# Altium schematic symbol library 21xt_symbols.SchLib: 44 symbols
Pins are listed as number, name and electrical type; pins without a type are passive.

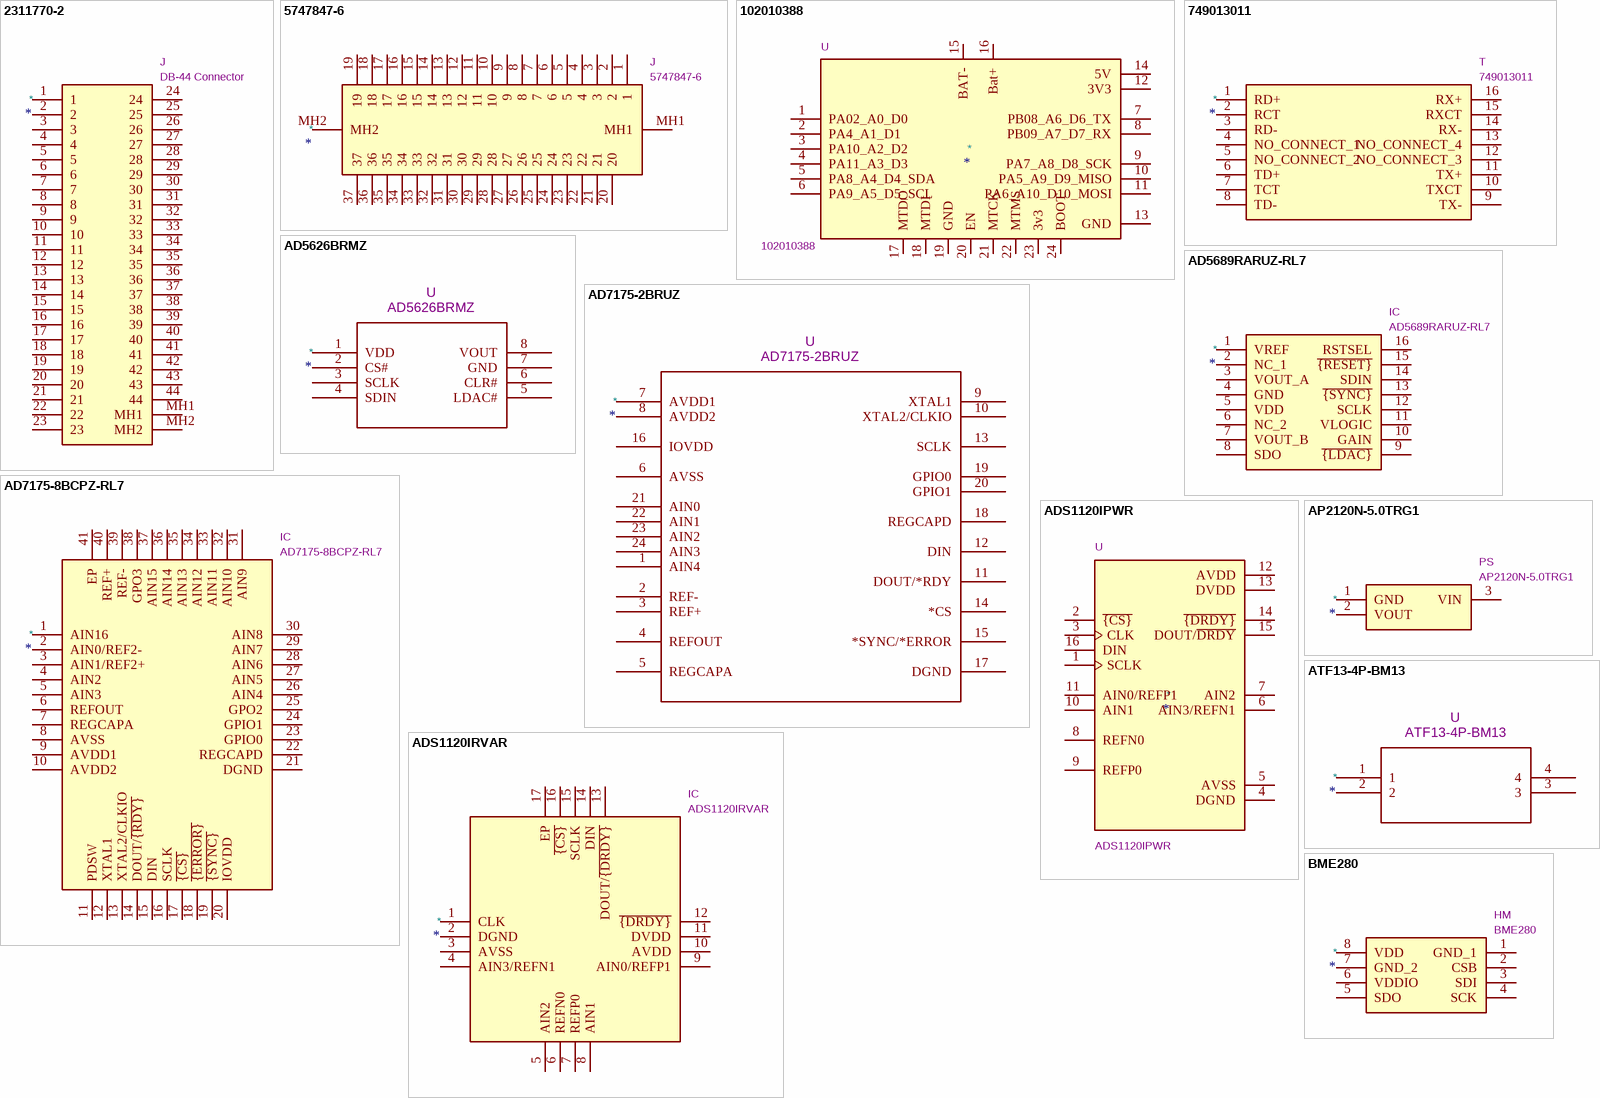
[diagram p0: symbols 2311770-2 to BME280]

## 2311770-2
designator *  value DB-44 Connector  Reference: J
Manufacturer_Name: TE Connectivity; Manufacturer_Part_Number: 2311770-2; ki_description: Body Features: Connector Profile Standard | Primary Product Color Black | Configuration Features: Number of Positions 44 | Number of Rows 3 | PCB Mount Orientation Right Angle | Contact Features: Contact Current Rating (Max) 3 AMP | Contact Shape & Form Round | Dimensions: Row-to-Row Spacing 1.98 MM | Row-to-Row Spacing .077 INCH | Housing Features: Centerline (Pitch) .09 INCH | Centerline (Pitch) 2.29 MM | Housing Material PBT GF | Mechanical Attachment: PCB Mount Retention With | Mating Retention With | P; Footprint: 23117702; Datasheet: https://www.mouser.sg/ProductDetail/TE-Connectivity-AMP/2311770-2?qs=y6ZabgHbY%252Byu0c3UbSQ1%252Bw%3D%3D; Height: 12.8; Mouser Part Number: 571-2311770-2; Mouser Price/Stock: https://www.mouser.co.uk/ProductDetail/TE-Connectivity-AMP/2311770-2?qs=y6ZabgHbY%252Byu0c3UbSQ1%252Bw%3D%3D
pins: 1, 2, 3, 4, 5, 6, 7, 8, 9, 10, 11, 12, 13, 14, 15, 16, 17, 18, 19, 20, 21, 22, 23, 24, 25, 26, 27, 28, 29, 30, 31, 32, 33, 34, 35, 36, 37, 38, 39, 40, 41, 42, 43, 44, MH1, MH2

## 5747847-6
designator *  value 5747847-6  Reference: J
Manufacturer_Name: TE Connectivity; ki_description: Body Features: Mating Feature Material Zinc | Assembly Process Feature Material Copper Alloy | Shell Plating Material Tin over Copper | Connector Profile Standard | Primary Product Color Black | Mating Feature Plating Material Clear Chromate | Configuration Features: Number of Rows 2 | PCB Mount Orientation Right Angle | Number of Positions 37 | Contact Features: Contact Mating Area Plating Material Gold | PCB Contact Termination Area Plating Material Tin | Contact Base Material Phosphor Bronze | Contact Ma; Footprint: 57478476; Datasheet: https://www.te.com/commerce/DocumentDelivery/DDEController?Action=srchrtrv&DocNm=82068_AMPLIMITE_Right-Angle_Posted_Conn&DocType=Catalog%20Section&DocLang=English&PartCntxt=5747847-6&DocFormat=pdf; Height: 12.9286; Manufacturer_Part_Number: 5747847-6; Mouser Part Number: 571-5747847-6; Mouser Price/Stock: https://www.mouser.co.uk/ProductDetail/TE-Connectivity/5747847-6?qs=DUjmvCJSYRDRvMVFkAFvlQ%3D%3D; Arrow Part Number: 5747847-6; Arrow Price/Stock: https://www.arrow.com/en/products/5747847-6/te-connectivity?region=nac
pins: 1, 2, 3, 4, 5, 6, 7, 8, 9, 10, 11, 12, 13, 14, 15, 16, 17, 18, 19, 20, 21, 22, 23, 24, 25, 26, 27, 28, 29, 30, 31, 32, 33, 34, 35, 36, 37, MH1, MH2

## 102010388
designator *  value 102010388  Reference: U
\n                        \n                            Seeeduino XIAO Development Board, Pre-Soldered [Seeed Studio] 102010388 Seeeduino XIAO Development Board, Pre-Soldered\n                        \n; MANUFACTURER: Seeed Technology; MF: Seeed Technology Co., Ltd; Footprint: 102010388:MODULE_102010388; MAXIMUM_PACKAGE_HEIGHT: N/A; Package: None; Price: None; Check_prices: https://www.snapeda.com/parts/102010388/Seeed+Studio/view-part/?ref=eda; STANDARD: Manufacturer Recommendations; PARTREV: N/A; SnapEDA_Link: https://www.snapeda.com/parts/102010388/Seeed+Studio/view-part/?ref=snap; MP: 102010388; Description_: \n                        \n                            Seeeduino XIAO Development Board, Pre-Soldered [Seeed Studio] 102010388 Seeeduino XIAO Development Board, Pre-Soldered\n                        \n; Availability: In Stock; SNAPEDA_PN: 102010388
pins: 1 PA02_A0_D0, 2 PA4_A1_D1, 3 PA10_A2_D2, 4 PA11_A3_D3, 5 PA8_A4_D4_SDA, 6 PA9_A5_D5_SCL, 7 PB08_A6_D6_TX, 8 PB09_A7_D7_RX, 9 PA7_A8_D8_SCK, 10 PA5_A9_D9_MISO, 11 PA6_A10_D10_MOSI, 12 3V3, 13 GND, 14 5V, 15 BAT-, 16 Bat+, 17 MTDO, 18 MTDI, 19 GND, 20 EN, 21 MTCK, 22 MTMS, 23 3v3, 24 BOOT

## 749013011
designator *  value 749013011  Reference: T
Manufacturer_Name: Wurth Elektronik; ki_description: Eth. Magnetics for Main, Aux; Footprint: 749013011; Datasheet: https://www.we-online.de/katalog/datasheet/749013011.pdf; Height: 5.33; Mouser Part Number: 710-749013011; Mouser Price/Stock: https://www.mouser.co.uk/ProductDetail/Wurth-Elektronik/749013011?qs=2sV1BwmkawRYxGj1O9AWzA%3D%3D; Manufacturer_Part_Number: 749013011
pins: 1 RD+, 2 RCT, 3 RD-, 4 NO_CONNECT_1, 5 NO_CONNECT_2, 6 TD+, 7 TCT, 8 TD-, 9 TX-, 10 TXCT, 11 TX+, 12 NO_CONNECT_3, 13 NO_CONNECT_4, 14 RX-, 15 RXCT, 16 RX+

## AD5626BRMZ
designator *  value AD5626BRMZ  Reference: U
ki_description: DAC for wsg, main; ki_fp_filters: RM_8_ADI RM_8_ADI-M RM_8_ADI-L; Footprint: RM_8_ADI; Datasheet: AD5626BRMZ; ki_keywords: AD5626BRMZ
pins: 1 VDD, 2 CS#, 3 SCLK, 4 SDIN, 5 LDAC#, 6 CLR#, 7 GND, 8 VOUT

## AD5689RARUZ-RL7
designator *  value AD5689RARUZ-RL7  Reference: IC
Manufacturer_Name: Analog Devices; ki_description: Digital to Analog Converters - DAC 16-Bit 2-ch SPI nanoDAC+with on-chip ref; Footprint: SOP65P640X120-16N; Datasheet: https://www.analog.com/media/en/technical-documentation/data-sheets/AD5689R_5687R.pdf; Height: 1.2; Mouser Part Number: 584-AD5689RARUZ-R7; Mouser Price/Stock: https://www.mouser.co.uk/ProductDetail/Analog-Devices/AD5689RARUZ-RL7?qs=NmRFExCfTkGWKmPGJDmQBg%3D%3D; Manufacturer_Part_Number: AD5689RARUZ-RL7
pins: 1 VREF, 2 NC_1, 3 VOUT_A, 4 GND, 5 VDD, 6 NC_2, 7 VOUT_B, 8 SDO, 9 ~{{LDAC}}, 10 GAIN, 11 VLOGIC, 12 SCLK, 13 ~{{SYNC}}, 14 SDIN, 15 ~{{RESET}}, 16 RSTSEL

## AD7175-2BRUZ
designator *  value AD7175-2BRUZ  Reference: U
ki_description: 2-channel ADC for Main, Aux; ki_fp_filters: RU_24_ADI RU_24_ADI-M RU_24_ADI-L; Footprint: RU_24_ADI; Datasheet: AD7175-2BRUZ; ki_keywords: AD7175-2BRUZ
pins: 1 AIN4, 2 REF-, 3 REF+, 4 REFOUT, 5 REGCAPA, 6 AVSS, 7 AVDD1, 8 AVDD2, 9 XTAL1, 10 XTAL2/CLKIO, 11 DOUT/*RDY, 12 DIN, 13 SCLK, 14 *CS, 15 *SYNC/*ERROR, 16 IOVDD, 17 DGND, 18 REGCAPD, 19 GPIO0, 20 GPIO1, 21 AIN0, 22 AIN1, 23 AIN2, 24 AIN3

## AD7175-8BCPZ-RL7
designator *  value AD7175-8BCPZ-RL7  Reference: IC
Manufacturer_Name: Analog Devices; ki_description: 8-channel ADC for Main, Aux; Footprint: QFN50P600X600X80-41N-D; Datasheet: https://componentsearchengine.com/Datasheets/2/AD7175-8BCPZ-RL7.pdf; Height: 0.8; Mouser Part Number: 584-AD7175-8BCPZ-RL7; Mouser Price/Stock: https://www.mouser.co.uk/ProductDetail/Analog-Devices/AD7175-8BCPZ-RL7?qs=JeIcUl65ClCxXjl02vXI6Q%3D%3D; Manufacturer_Part_Number: AD7175-8BCPZ-RL7
pins: 1 AIN16, 2 AIN0/REF2-, 3 AIN1/REF2+, 4 AIN2, 5 AIN3, 6 REFOUT, 7 REGCAPA, 8 AVSS, 9 AVDD1, 10 AVDD2, 11 PDSW, 12 XTAL1, 13 XTAL2/CLKIO, 14 DOUT/~{{RDY}}, 15 DIN, 16 SCLK, 17 ~{{CS}}, 18 ~{{ERROR}}, 19 ~{{SYNC}}, 20 IOVDD, 21 DGND, 22 REGCAPD, 23 GPIO0, 24 GPIO1, 25 GPO2, 26 AIN4, 27 AIN5, 28 AIN6, 29 AIN7, 30 AIN8, 31 AIN9, 32 AIN10, 33 AIN11, 34 AIN12, 35 AIN13, 36 AIN14, 37 AIN15, 38 GPO3, 39 REF-, 40 REF+, 41 EP

## ADS1120IPWR
designator *  value ADS1120IPWR  Reference: U
ki_description: ADC for wireless strain gauge; Footprint: ADS1120IPWR:SOP65P640X120-16N
pins: 1 SCLK, 2 ~{{CS}}, 3 CLK, 4 DGND, 5 AVSS, 6 AIN3/REFN1, 7 AIN2, 8 REFN0, 9 REFP0, 10 AIN1, 11 AIN0/REFP1, 12 AVDD, 13 DVDD, 14 ~{{DRDY}}, 15 DOUT/~{DRDY}, 16 DIN

## ADS1120IRVAR
designator *  value ADS1120IRVAR  Reference: IC
Manufacturer_Name: Texas Instruments; ki_description: 16-bit, 2-kSPS, 4-ch, low-power, small-size delta-sigma ADC with PGA, VREF, 2x IDACs & SPI interface; Footprint: QFN50P350X350X100-17N-D; Datasheet: https://www.arrow.com/en/products/ads1120irvar/texas-instruments; Height: 1; Mouser Part Number: 595-ADS1120IRVAR; Mouser Price/Stock: https://www.mouser.co.uk/ProductDetail/Texas-Instruments/ADS1120IRVAR?qs=%2Fd%252BFzHvH4c2AzmjDnnpHRQ%3D%3D; Manufacturer_Part_Number: ADS1120IRVAR
pins: 1 CLK, 2 DGND, 3 AVSS, 4 AIN3/REFN1, 5 AIN2, 6 REFN0, 7 REFP0, 8 AIN1, 9 AIN0/REFP1, 10 AVDD, 11 DVDD, 12 ~{{DRDY}}, 13 DOUT/~{{DRDY}}, 14 DIN, 15 SCLK, 16 ~{{CS}}, 17 EP

## AP2120N-5.0TRG1
designator *  value AP2120N-5.0TRG1  Reference: PS
Manufacturer_Name: Diodes Incorporated; ki_description: Lin Reg 5V 150MA SOT23 for wsg; Footprint: SOT96P240X120-3N; Datasheet: https://www.diodes.com//assets/Datasheets/AP2120.pdf; Height: 1.2; Mouser Part Number: 621-AP2120N-5.0TRG1; Mouser Price/Stock: https://www.mouser.co.uk/ProductDetail/Diodes-Incorporated/AP2120N-5.0TRG1?qs=M%2FOdCRO8QQ3JQu49DdtyIA%3D%3D; Manufacturer_Part_Number: AP2120N-5.0TRG1
pins: 1 GND, 2 VOUT, 3 VIN

## ATF13-4P-BM13
designator *  value ATF13-4P-BM13  Reference: U
ki_fp_filters: ATF13-4P-BM13_AMP; Footprint: ATF13-4P-BM13_AMP; Datasheet: ATF13-4P-BM13; ki_keywords: ATF13-4P-BM13
pins: 1, 2, 3, 4

## BME280
designator *  value BME280  Reference: HM
Manufacturer_Name: BOSCH; ki_description: Humidity/Pressure Sensors for wsg; Footprint: BME280; Datasheet: https://datasheet.datasheetarchive.com/originals/distributors/DKDS-24/462906.pdf; Mouser Part Number: 262-BME280; Mouser Price/Stock: https://www.mouser.co.uk/ProductDetail/Bosch-Sensortec/BME280?qs=2OnyuXx6vpj2fK9HX7qb3g%3D%3D; Manufacturer_Part_Number: BME280
pins: 1 GND_1, 2 CSB, 3 SDI, 4 SCK, 5 SDO, 6 VDDIO, 7 GND_2, 8 VDD

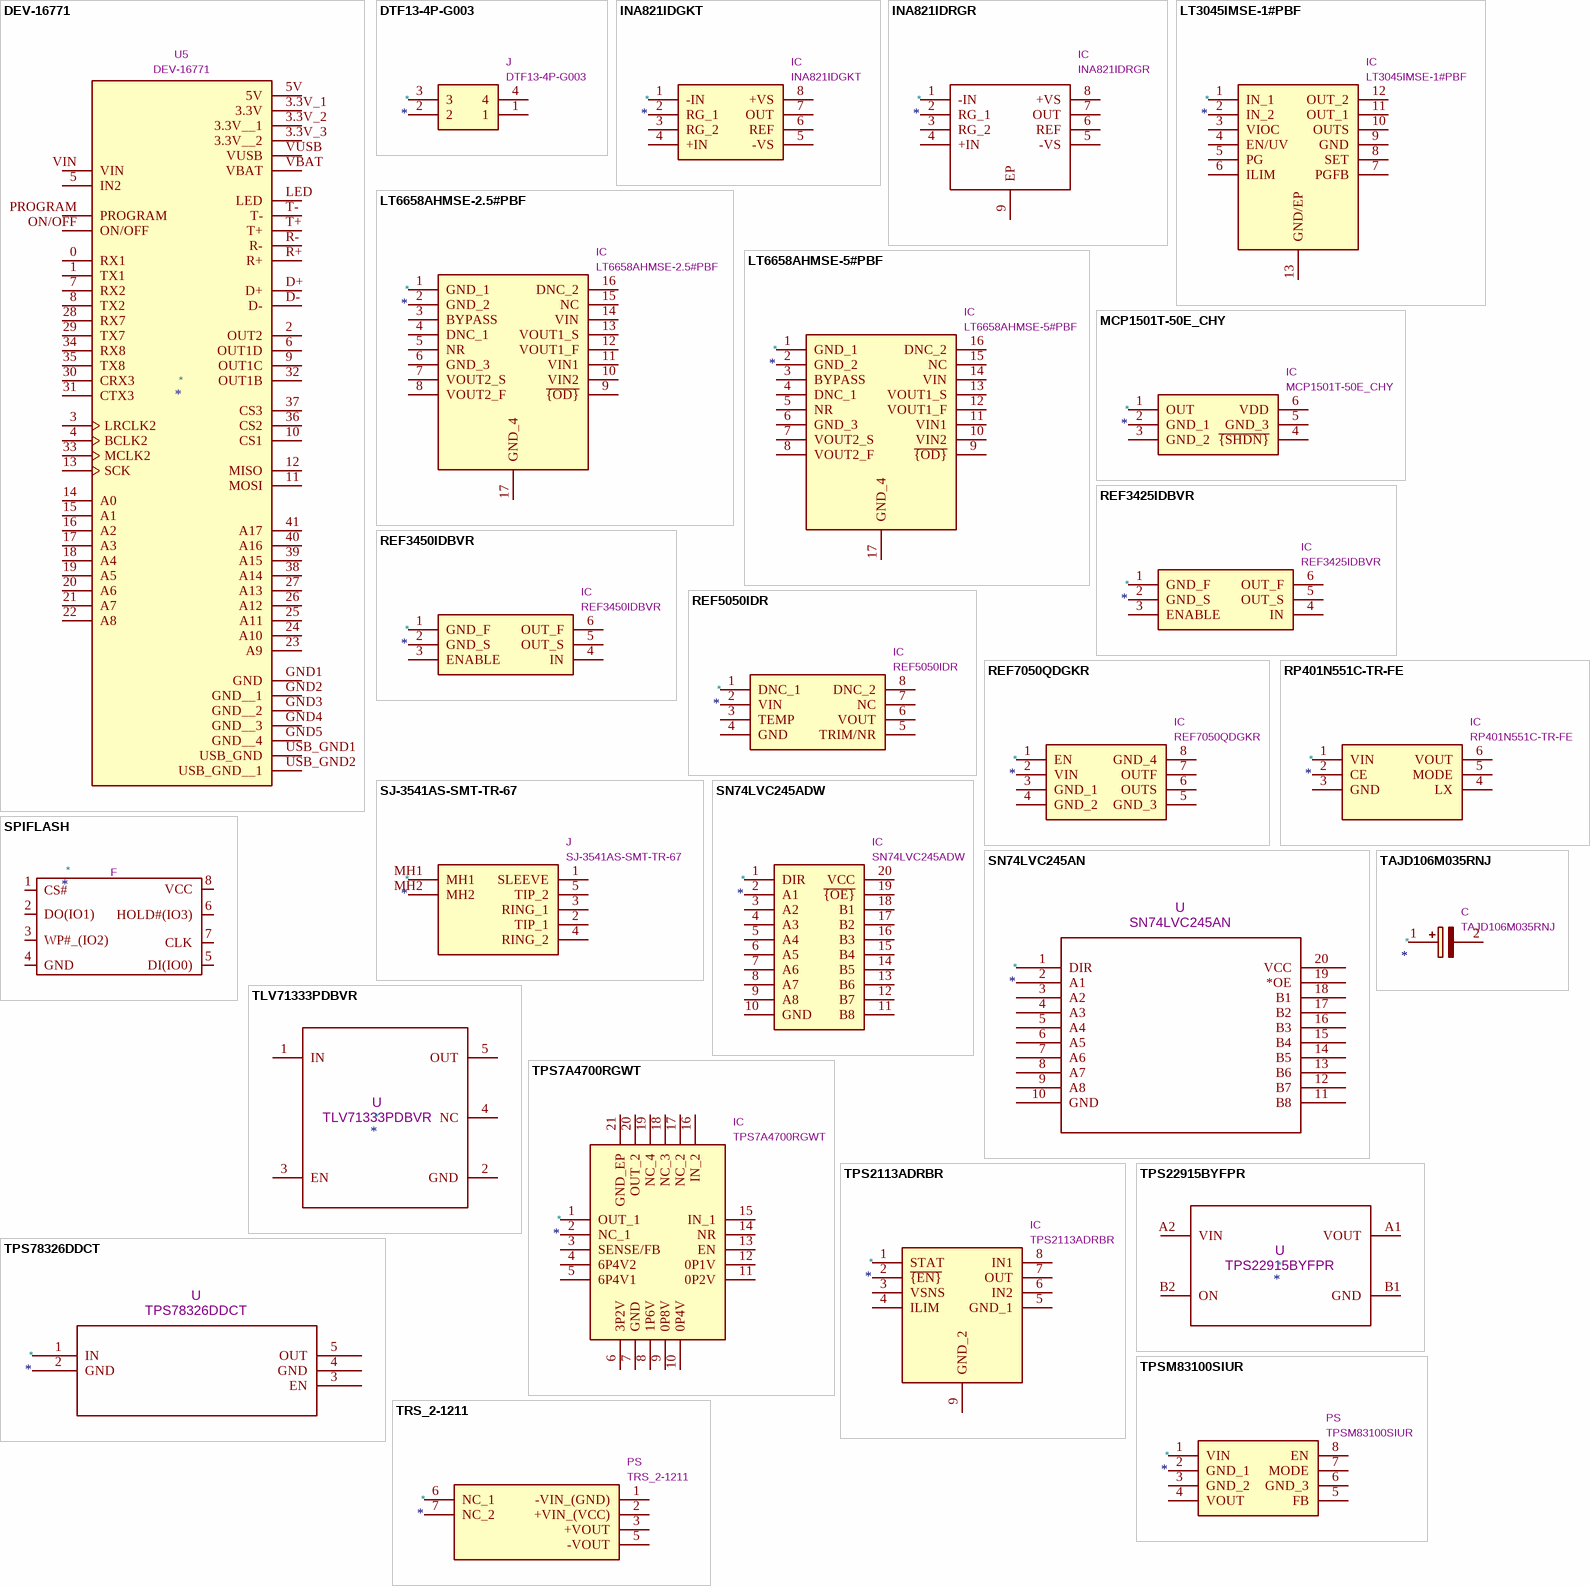
[diagram p1: symbols DEV-16771 to TRS_2-1211]

## DEV-16771
designator *  value DEV-16771  Reference: U5
MANUFACTURER: SparkFun Electronics; ki_description: teensy 4.1 for Aux; Footprint: mainboxfp:MODULE_DEV-16771; PARTREV: 4.1; MAXIMUM_PACKAGE_HEIGHT: 4.07mm; STANDARD: Manufacturer recommendations
pins: 0 RX1, 1 TX1, 2 OUT2, 3 LRCLK2, 3.3V_1 3.3V, 3.3V_2 3.3V__1, 3.3V_3 3.3V__2, 4 BCLK2, 5 IN2, 5V, 6 OUT1D, 7 RX2, 8 TX2, 9 OUT1C, 10 CS1, 11 MOSI, 12 MISO, 13 SCK, 14 A0, 15 A1, 16 A2, 17 A3, 18 A4, 19 A5, 20 A6, 21 A7, 22 A8, 23 A9, 24 A10, 25 A11, 26 A12, 27 A13, 28 RX7, 29 TX7, 30 CRX3, 31 CTX3, 32 OUT1B, 33 MCLK2, 34 RX8, 35 TX8, 36 CS2, 37 CS3, 38 A14, 39 A15, 40 A16, 41 A17, D+, D-, GND1 GND, GND2 GND__1, GND3 GND__2, GND4 GND__3, GND5 GND__4, LED, ON/OFF, PROGRAM, R+, R-, T+, T-, USB_GND1 USB_GND, USB_GND2 USB_GND__1, VBAT, VIN, VUSB

## DTF13-4P-G003
designator *  value DTF13-4P-G003  Reference: J
Manufacturer_Name: TE Connectivity; ki_description: Body Features: Primary Product Color Black | Configuration Features: Number of Sections 1 | Number of Rows 2 | Number of Positions 4 | PCB Mount Orientation Right Angle | Number of Signal Positions 4 | Contact Features: Mating Pin Diameter .063 INCH | Contact Type Pin | Contact Mating Area Plating Material Gold | Contact Current Rating (Max) 13 AMP | Contact Size Size 16 | Mating Pin Diameter 1.59 MM | Dimensions: Connector Width 27.18 MM | PCB Thickness (Recommended) .78  2.36 MM | Connector Length 1.31; Footprint: DTF134PG003; Datasheet: https://www.te.com/commerce/DocumentDelivery/DDEController?Action=srchrtrv&DocNm=1-1773962-8&DocType=Data%20Sheet&DocLang=English&PartCntxt=DTF13-4P-G003&DocFormat=pdf; Height: 23.52; Mouser Part Number: 571-DTF13-4P-G003; Mouser Price/Stock: https://www.mouser.co.uk/ProductDetail/TE-Connectivity-DEUTSCH/DTF13-4P-G003?qs=cgQJD%2FpJz0wMj4JqThO4Bw%3D%3D; Manufacturer_Part_Number: DTF13-4P-G003
pins: 1, 2, 3, 4

## INA821IDGKT
designator *  value INA821IDGKT  Reference: IC
Manufacturer_Name: Texas Instruments; ki_description: Inst. Amp for Main, wsg; Footprint: SOP65P490X110-8N; Datasheet: http://www.ti.com/lit/ds/symlink/ina821.pdf; Height: 1.1; Mouser Part Number: 595-INA821IDGKT; Mouser Price/Stock: https://www.mouser.co.uk/ProductDetail/Texas-Instruments/INA821IDGKT?qs=LDGDZb5k%2F%252B8diOW5CeiHfQ%3D%3D; Manufacturer_Part_Number: INA821IDGKT
pins: 1 -IN, 2 RG_1, 3 RG_2, 4 +IN, 5 -VS, 6 REF, 7 OUT, 8 +VS

## INA821IDRGR
designator *  value INA821IDRGR  Reference: IC
Instrumentation Amplifiers High bandwidth (4.7MHz), low noise (7nV/vHz), precision (35 V), low-power, instrumentation amp; Manufacturer_Name: Texas Instruments; Footprint: SON50P300X300X80-9N-D; Datasheet: https://www.ti.com/lit/ds/symlink/ina821.pdf?ts=1600196554295&ref_url=https%253A%252F%252Fwww.ti.com%252Fstore%252Fti%252Fen%252Fp%252Fproduct%252F%253Fp%253DINA821IDRGR; Description_: Instrumentation Amplifiers High bandwidth (4.7MHz), low noise (7nV/vHz), precision (35 V), low-power, instrumentation amp; Height: 0.8; Mouser Part Number: 595-INA821IDRGR; Mouser Price/Stock: https://www.mouser.co.uk/ProductDetail/Texas-Instruments/INA821IDRGR?qs=LDGDZb5k%2F%252B%2Foo4X%252BEQr4FA%3D%3D; Manufacturer_Part_Number: INA821IDRGR; ki_description: Instrumentation Amplifiers High bandwidth (4.7MHz), low noise (7nV/vHz), precision (35 V), low-power, instrumentation amp
pins: 1 -IN, 2 RG_1, 3 RG_2, 4 +IN, 5 -VS, 6 REF, 7 OUT, 8 +VS, 9 EP

## LT3045IMSE-1#PBF
designator *  value LT3045IMSE-1#PBF  Reference: IC
Manufacturer_Name: Analog Devices; ki_description: LDO Reg for Main; Footprint: SOP65P490X110-13N; Datasheet: http://www.analog.com/media/en/technical-documentation/data-sheets/30451fa.pdf; Height: 1.1; Mouser Part Number: 584-LT3045IMSE-1#PBF; Mouser Price/Stock: https://www.mouser.co.uk/ProductDetail/Analog-Devices/LT3045IMSE-1PBF?qs=5aG0NVq1C4xDoPDdVL4PHw%3D%3D; Manufacturer_Part_Number: LT3045IMSE-1#PBF
pins: 1 IN_1, 2 IN_2, 3 VIOC, 4 EN/UV, 5 PG, 6 ILIM, 7 PGFB, 8 SET, 9 GND, 10 OUTS, 11 OUT_1, 12 OUT_2, 13 GND/EP

## LT6658AHMSE-2.5#PBF
designator *  value LT6658AHMSE-2.5#PBF  Reference: IC
Manufacturer_Name: Analog Devices; ki_description: 2.5v refulator for Aux; Footprint: SOP50P490X110-17N; Datasheet: https://www.analog.com/media/en/technical-documentation/data-sheets/lt6658.pdf; Height: 1.1; Mouser Part Number: 584-LT6658AHMSE5PBF; Mouser Price/Stock: https://www.mouser.co.uk/ProductDetail/Analog-Devices/LT6658AHMSE-5PBF?qs=W0yvOO0ixfFdSUQ4xUcBUw%3D%3D; Manufacturer_Part_Number: LT6658AHMSE-2.5#PBF
pins: 1 GND_1, 2 GND_2, 3 BYPASS, 4 DNC_1, 5 NR, 6 GND_3, 7 VOUT2_S, 8 VOUT2_F, 9 ~{{OD}}, 10 VIN2, 11 VIN1, 12 VOUT1_F, 13 VOUT1_S, 14 VIN, 15 NC, 16 DNC_2, 17 GND_4

## LT6658AHMSE-5#PBF
designator *  value LT6658AHMSE-5#PBF  Reference: IC
Manufacturer_Name: Analog Devices; ki_description: 5v refulator for Aux; Footprint: SOP50P490X110-17N; Datasheet: https://www.analog.com/media/en/technical-documentation/data-sheets/lt6658.pdf; Height: 1.1; Mouser Part Number: 584-LT6658AHMSE5PBF; Mouser Price/Stock: https://www.mouser.co.uk/ProductDetail/Analog-Devices/LT6658AHMSE-5PBF?qs=W0yvOO0ixfFdSUQ4xUcBUw%3D%3D; Manufacturer_Part_Number: LT6658AHMSE-5#PBF
pins: 1 GND_1, 2 GND_2, 3 BYPASS, 4 DNC_1, 5 NR, 6 GND_3, 7 VOUT2_S, 8 VOUT2_F, 9 ~{{OD}}, 10 VIN2, 11 VIN1, 12 VOUT1_F, 13 VOUT1_S, 14 VIN, 15 NC, 16 DNC_2, 17 GND_4

## MCP1501T-50E_CHY
designator *  value MCP1501T-50E_CHY  Reference: IC
Manufacturer_Name: Microchip; Manufacturer_Part_Number: MCP1501T-50E/CHY; ki_description: Series Voltage Reference IC Fixed 5V V +/-0.1% 20 mA SOT-23-6; Footprint: SOT95P280X145-6N; Datasheet: https://ww1.microchip.com/downloads/aemDocuments/documents/MSLD/ProductDocuments/DataSheets/MCP1501-Data-Sheet-DS20005474F.pdf; Height: 1.45; Mouser Part Number: 579-MCP1501T-50E/CHY; Mouser Price/Stock: https://www.mouser.co.uk/ProductDetail/Microchip-Technology/MCP1501T-50E-CHY?qs=Li%252BoUPsLEnt6h%2FnXwes%252BxQ%3D%3D
pins: 1 OUT, 2 GND_1, 3 GND_2, 4 ~{{SHDN}}, 5 GND_3, 6 VDD

## REF3425IDBVR
designator *  value REF3425IDBVR  Reference: IC
Manufacturer_Name: Texas Instruments; ki_description: 2.5-V low-drift low-power small-footprint series voltage reference; Footprint: SOT95P280X145-6N; Datasheet: http://www.ti.com/lit/ds/symlink/ref3425.pdf; Height: 1.45; Mouser Part Number: 595-REF3425IDBVR; Mouser Price/Stock: https://www.mouser.co.uk/ProductDetail/Texas-Instruments/REF3425IDBVR?qs=YCa%2FAAYMW01YJo5s3bO8wA%3D%3D; Manufacturer_Part_Number: REF3425IDBVR
pins: 1 GND_F, 2 GND_S, 3 ENABLE, 4 IN, 5 OUT_S, 6 OUT_F

## REF3450IDBVR
designator *  value REF3450IDBVR  Reference: IC
Manufacturer_Name: Texas Instruments; ki_description: 5-V low-drift low-power small-footprint series voltage reference; Footprint: SOT95P280X145-6N; Datasheet: http://www.ti.com/lit/ds/symlink/ref3440.pdf; Height: 1.45; Mouser Part Number: 595-REF3450IDBVR; Mouser Price/Stock: https://www.mouser.co.uk/ProductDetail/Texas-Instruments/REF3450IDBVR?qs=55YtniHzbhBkMjMysxx4Wg%3D%3D; Manufacturer_Part_Number: REF3450IDBVR
pins: 1 GND_F, 2 GND_S, 3 ENABLE, 4 IN, 5 OUT_S, 6 OUT_F

## REF5050IDR
designator *  value REF5050IDR  Reference: IC
Manufacturer_Name: Texas Instruments; ki_description: 5v ref for Aux; Footprint: SOIC127P600X175-8N; Datasheet: http://www.ti.com/lit/gpn/ref5050; Height: 1.75; Mouser Part Number: 595-REF5050IDR; Mouser Price/Stock: https://www.mouser.co.uk/ProductDetail/Texas-Instruments/REF5050IDR?qs=xL7PkI2RoJ6ioxG%2FxfIGUw%3D%3D; Manufacturer_Part_Number: REF5050IDR
pins: 1 DNC_1, 2 VIN, 3 TEMP, 4 GND, 5 TRIM/NR, 6 VOUT, 7 NC, 8 DNC_2

## REF7050QDGKR
designator *  value REF7050QDGKR  Reference: IC
Manufacturer_Name: Texas Instruments; ki_description: Vref 5.0 V for wsg; Footprint: SOP65P490X110-8N; Datasheet: https://www.ti.com/lit/ds/symlink/ref70.pdf?ts=1705897089094&ref_url=https%253A%252F%252Fwww.mouser.mx%252F; Height: 1.1; Manufacturer_Part_Number: REF7050QDGKR
pins: 1 EN, 2 VIN, 3 GND_1, 4 GND_2, 5 GND_3, 6 OUTS, 7 OUTF, 8 GND_4

## RP401N551C-TR-FE
designator *  value RP401N551C-TR-FE  Reference: IC
Manufacturer_Name: Nisshinbo; ki_description: 5->5.5 regulator for Aux; Datasheet: https://www.mouser.com/datasheet/2/294/rp401_ea-3219870.pdf; Height: 1.1; Manufacturer_Part_Number: RP401N551C-TR-FE
pins: 1 VIN, 2 CE, 3 GND, 4 LX, 5 MODE, 6 VOUT

## SJ-3541AS-SMT-TR-67
designator *  value SJ-3541AS-SMT-TR-67  Reference: J
Manufacturer_Name: Same Sky; ki_description: Stereo Jack, IP67, 3.5, 5 conductor, smt,  no switches, shield, T&R package; Footprint: SJ3541ASSMTTR67; Datasheet: https://www.cui.com/product/resource/sj-3541as-smt-tr-67.pdf; Height: 5.65; Manufacturer_Part_Number: SJ-3541AS-SMT-TR-67; Arrow Part Number: SJ-3541AS-SMT-TR-67; Arrow Price/Stock: https://www.arrow.com/en/products/sj-3541as-smt-tr-67/cui-devices
pins: 1 SLEEVE, 2 TIP_1, 3 RING_1, 4 RING_2, 5 TIP_2, MH1, MH2

## SN74LVC245ADW
designator *  value SN74LVC245ADW  Reference: IC
Manufacturer_Name: Texas Instruments; ki_description: Level shifter for Main; Footprint: SOIC127P1030X265-20N; Datasheet: https://www.ti.com/lit/ds/symlink/sn74lvc245a.pdf?ts=1643021215799&ref_url=https%253A%252F%252Fwww.google.com%252F; Height: 2.65; Mouser Part Number: 595-SN74LVC245ADW; Mouser Price/Stock: https://www.mouser.co.uk/ProductDetail/Texas-Instruments/SN74LVC245ADW?qs=0OT4q4QBUTKgSspjJn2kOw%3D%3D; Manufacturer_Part_Number: SN74LVC245ADW
pins: 1 DIR, 2 A1, 3 A2, 4 A3, 5 A4, 6 A5, 7 A6, 8 A7, 9 A8, 10 GND, 11 B8, 12 B7, 13 B6, 14 B5, 15 B4, 16 B3, 17 B2, 18 B1, 19 ~{{OE}}, 20 VCC

## SN74LVC245AN
designator *  value SN74LVC245AN  Reference: U
ki_fp_filters: N20; Footprint: N20; Datasheet: SN74LVC245AN; ki_keywords: SN74LVC245AN
pins: 1 DIR, 2 A1, 3 A2, 4 A3, 5 A4, 6 A5, 7 A6, 8 A7, 9 A8, 10 GND, 11 B8, 12 B7, 13 B6, 14 B5, 15 B4, 16 B3, 17 B2, 18 B1, 19 *OE, 20 VCC

## SPIFLASH
designator *  Reference: F
pins: 1 CS#, 2 DO(IO1), 3 WP#_(IO2), 4 GND, 5 DI(IO0), 6 HOLD#(IO3), 7 CLK, 8 VCC

## TAJD106M035RNJ
designator *  value TAJD106M035RNJ  Reference: C
Manufacturer_Name: Kyocera AVX; ki_description: Tantalum Capacitors - Solid SMD 35volts 10uF 20%; Footprint: CAPPM7344X310N; Datasheet: http://datasheets.avx.com/TAJ.pdf; Height: 3.1; Mouser Part Number: 581-TAJD106M035R; Mouser Price/Stock: https://www.mouser.co.uk/ProductDetail/KYOCERA-AVX/TAJD106M035RNJ?qs=srZBJ3srS4AUaIC0Brj4CQ%3D%3D; Manufacturer_Part_Number: TAJD106M035RNJ
pins: 1 +, 2 -

## TLV71333PDBVR
designator *  value TLV71333PDBVR  Reference: U
ki_fp_filters: DBV0005A_N DBV0005A_M DBV0005A_L; Footprint: DBV0005A_N; Datasheet: TLV71333PDBVR; ki_keywords: TLV71333PDBVR
pins: 1 IN, 2 GND, 3 EN, 4 NC, 5 OUT

## TPS7A4700RGWT
designator *  value TPS7A4700RGWT  Reference: IC
Manufacturer_Name: Texas Instruments; ki_description: LDO Regulator for Main; Footprint: QFN65P500X500X100-21N-D; Datasheet: http://www.ti.com/lit/ds/symlink/tps7a47.pdf; Height: 1; Mouser Part Number: 595-TPS7A4700RGWT; Mouser Price/Stock: https://www.mouser.co.uk/ProductDetail/Texas-Instruments/TPS7A4700RGWT?qs=b5Ofe9I6AaFS3JzsUj8shA%3D%3D; Manufacturer_Part_Number: TPS7A4700RGWT
pins: 1 OUT_1, 2 NC_1, 3 SENSE/FB, 4 6P4V2, 5 6P4V1, 6 3P2V, 7 GND, 8 1P6V, 9 0P8V, 10 0P4V, 11 0P2V, 12 0P1V, 13 EN, 14 NR, 15 IN_1, 16 IN_2, 17 NC_2, 18 NC_3, 19 NC_4, 20 OUT_2, 21 GND_EP

## TPS2113ADRBR
designator *  value TPS2113ADRBR  Reference: IC
Manufacturer_Name: Texas Instruments; ki_description: Power Switch ICs - Power Distribution Autoswitching Pwr Mux; Footprint: SON65P300X300X100-9N-D; Datasheet: https://www.ti.com/lit/gpn/TPS2113A; Height: 1; Mouser Part Number: 595-TPS2113ADRBR; Mouser Price/Stock: https://www.mouser.co.uk/ProductDetail/Texas-Instruments/TPS2113ADRBR?qs=g%2FrhRe7LVpRsXhRevikZ7Q%3D%3D; Manufacturer_Part_Number: TPS2113ADRBR
pins: 1 STAT, 2 ~{{EN}}, 3 VSNS, 4 ILIM, 5 GND_1, 6 IN2, 7 OUT, 8 IN1, 9 GND_2

## TPS22915BYFPR
designator *  value TPS22915BYFPR  Reference: U
ki_fp_filters: YFP0004AAAA; Footprint: 21xt_footprints:YFP0004AAAA; Datasheet: TPS22915BYFPR; ki_keywords: TPS22915BYFPR
pins: A1 VOUT, A2 VIN, B1 GND, B2 ON

## TPS78326DDCT
designator *  value TPS78326DDCT  Reference: U
ki_fp_filters: DDC5_TEX DDC5_TEX-M DDC5_TEX-L; Footprint: DDC5_TEX; Datasheet: TPS78326DDCT; ki_keywords: TPS78326DDCT
pins: 1 IN, 2 GND, 3 EN, 4 GND, 5 OUT

## TPSM83100SIUR
designator *  value TPSM83100SIUR  Reference: PS
Manufacturer_Name: Texas Instruments; ki_description: 5.5v Boost Converter for wsg; Footprint: TPSM83100SIUR; Datasheet: https://www.ti.com/lit/ds/symlink/tpsm83100.pdf?ts=1694232852590&ref_url=https%253A%252F%252Fwww.ti.com%252Fproduct%252FTPSM83100%252Fpart-details%252FTPSM83100SIUR; Height: 1.2; Mouser Part Number: 595-TPSM83100SIUR; Mouser Price/Stock: https://www.mouser.co.uk/ProductDetail/Texas-Instruments/TPSM83100SIUR?qs=17ckDYBRdembJwsYYPsw7Q%3D%3D; Manufacturer_Part_Number: TPSM83100SIUR
pins: 1 VIN, 2 GND_1, 3 GND_2, 4 VOUT, 5 FB, 6 GND_3, 7 MODE, 8 EN

## TRS_2-1211
designator *  value TRS_2-1211  Reference: PS
Manufacturer_Name: Traco Power; Manufacturer_Part_Number: TRS 2-1211; ki_description: Buck converter 5v for Aux; Footprint: TRS22411; Datasheet: https://tracopower.com/trs2-datasheet/; Height: 8; Mouser Part Number: 495-TRS2-1211; Mouser Price/Stock: https://www.mouser.co.uk/ProductDetail/TRACO-Power/TRS-2-1211?qs=wUXugUrL1qziI%252BEzex2I6g%3D%3D
pins: 1 -VIN_(GND), 2 +VIN_(VCC), 3 +VOUT, 5 -VOUT, 6 NC_1, 7 NC_2

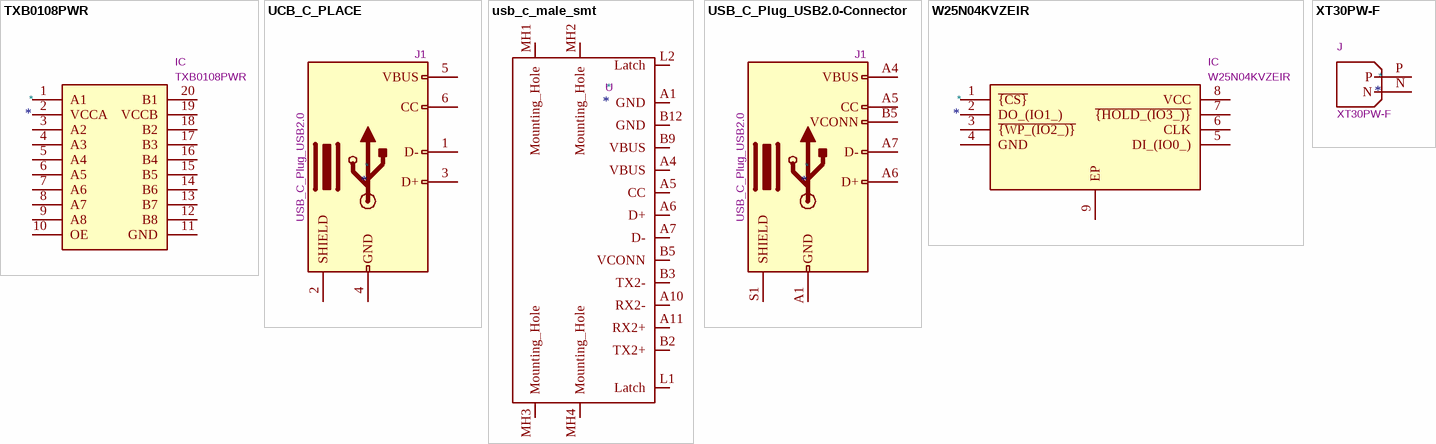
[diagram p2: symbols TXB0108PWR to XT30PW-F]

## TXB0108PWR
designator *  value TXB0108PWR  Reference: IC
Manufacturer_Name: Texas Instruments; ki_description: Level shifter for Main; Footprint: SOP65P640X120-20N; Datasheet: http://www.ti.com/lit/ds/symlink/txb0108.pdf; Height: 1.2; Mouser Part Number: 595-TXB0108PWR; Mouser Price/Stock: https://www.mouser.co.uk/ProductDetail/Texas-Instruments/TXB0108PWR?qs=oFXvjAmG9EgEUWGWzOVFCA%3D%3D; Manufacturer_Part_Number: TXB0108PWR
pins: 1 A1, 2 VCCA, 3 A2, 4 A3, 5 A4, 6 A5, 7 A6, 8 A7, 9 A8, 10 OE, 11 GND, 12 B8, 13 B7, 14 B6, 15 B5, 16 B4, 17 B3, 18 B2, 19 VCCB, 20 B1

## UCB_C_PLACE
designator *  value USB_C_Plug_USB2.0  Reference: J1
ki_fp_filters: USB*C*Plug*
pins: 1 D-, 2 SHIELD, 3 D+, 4 GND, 5 VBUS, 6 CC

## usb_c_male_smt
designator *  Reference: U
pins: A1 GND, A4 VBUS, A5 CC, A6 D+, A7 D-, A10 RX2-, A11 RX2+, B2 TX2+, B3 TX2-, B5 VCONN, B9 VBUS, B12 GND, L1 Latch, L2 Latch, MH1 Mounting_Hole, MH2 Mounting_Hole, MH3 Mounting_Hole, MH4 Mounting_Hole

## USB_C_Plug_USB2.0-Connector
designator *  value USB_C_Plug_USB2.0  Reference: J1
ki_fp_filters: USB*C*Plug*; Footprint: Connector_USB_Extra:USB_C_Plug_UTC009-C12; Datasheet: https://www.usb.org/sites/default/files/documents/usb_type-c.zip
pins: A1 GND, A4 VBUS, A5 CC, A6 D+, A7 D-, A9 VBUS hidden, A12 GND hidden, B1 GND hidden, B4 VBUS hidden, B5 VCONN, B9 VBUS hidden, B12 GND hidden, S1 SHIELD

## W25N04KVZEIR
designator *  value W25N04KVZEIR  Reference: IC
Manufacturer_Name: Winbond; ki_description: FLASH - NAND Memory IC 4Gbit SPI - Quad I/O 104 MHz 8-WSON (8x6); Footprint: SON127P800X600X80-9N-D; Datasheet: https://www.winbond.com/hq/search-resource-file.jsp?partNo=W25N04KVZEIR&type=datasheet; Height: 0.8; Mouser Part Number: 454-W25N04KVZEIR; Mouser Price/Stock: https://www.mouser.co.uk/ProductDetail/Winbond/W25N04KVZEIR?qs=YwPsRIUVAOdveyibmg1m8Q%3D%3D; Manufacturer_Part_Number: W25N04KVZEIR
pins: 1 ~{{CS}}, 2 DO_(IO1_), 3 ~{{WP_(IO2_)}}, 4 GND, 5 DI_(IO0_), 6 CLK, 7 ~{{HOLD_(IO3_)}}, 8 VCC, 9 EP

## XT30PW-F
designator *  value XT30PW-F  Reference: J
\nSocket; DC supply; XT30; female; PIN: 2; on PCBs; THT; yellow; 15A\n; MF: amass; Footprint: XT30PW-F:AMASS_XT30PW-F; MAXIMUM_PACKAGE_HEIGHT: 5 mm; Package: None; Price: None; Check_prices: https://www.snapeda.com/parts/XT30PW-F/AMASS/view-part/?ref=eda; STANDARD: Manufacturer Recommendations; PARTREV: 1.2; SnapEDA_Link: https://www.snapeda.com/parts/XT30PW-F/AMASS/view-part/?ref=snap; MP: XT30PW-F; Description_: \nSocket; DC supply; XT30; female; PIN: 2; on PCBs; THT; yellow; 15A\n; MANUFACTURER: Amass; Availability: Not in stock; SNAPEDA_PN: XT30PW-F
pins: N, P